# EAGLE library part SOP_8 (library sop_8)
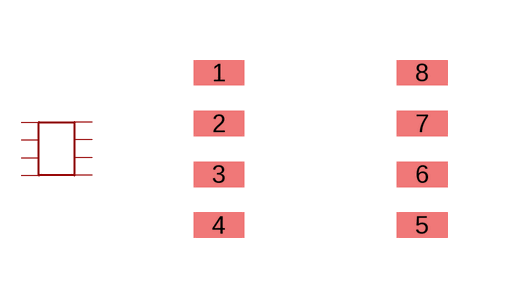
[diagram p0: symbol with the pads of HSOP-8; footprint HSOP-8]

Designator prefix -

## SOP_8  [HSOP-8]
1  1
2  2
3  3
4  4
5  5
6  6
7  7
8  8

## Footprint HSOP-8 (pad centres in mm)
smd 1.27 x 0.635: 1 -2.54,1.945; 2 -2.54,0.675; 3 -2.54,-0.595; 4 -2.54,-1.865; 5 2.54,-1.865; 6 2.54,-0.595; 7 2.54,0.675; 8 2.54,1.945